# Altium footprint library universky2.PcbLib: 21 footprints (part 2 of 2)
Each footprint in its own frame and in the unit in brackets; x right, y up, seen from the top. Pads: shape width x height; smd on the part's side, far side on the other; paste and mask are expansions set on the pad; w line width, h text height; cw(c..) or ccw(c..) is an arc to the next point about the centre after c.
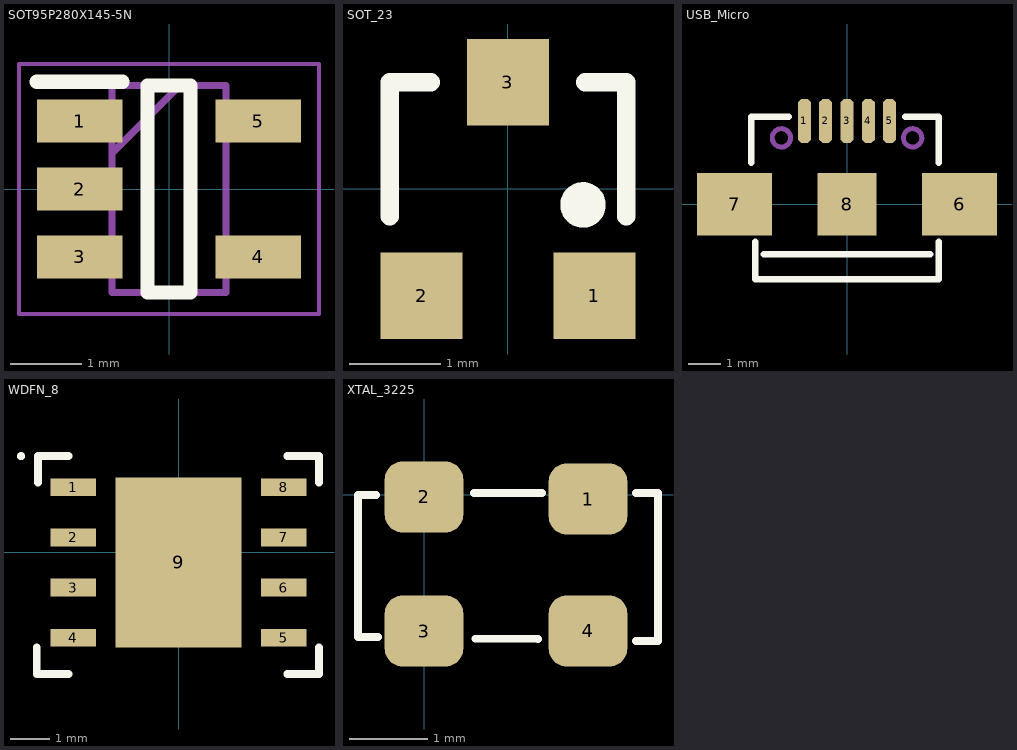
[diagram p1: the footprints below, top view; thin cyan lines are the x and y axes]

## SOT95P280X145-5N [mm]
height 7.01
pads (5):
  rect 1.2x0.6 smd: 1(-1.25,0.95) 2(-1.25,0) 3(-1.25,-0.95) 4(1.25,-0.95) 5(1.25,0.95)
Top Overlay:
  lines w0.2: -1.85,1.5 -0.65,1.5 ; -0.3,-1.45 -0.3,1.45 0.3,1.45 0.3,-1.45 -0.3,-1.45
Mechanical 15:
  lines w0.1: -0.8,0.5 0.15,1.45 ; -0.8,-1.45 -0.8,1.45 0.8,1.45 0.8,-1.45 -0.8,-1.45
Mechanical 16:
  lines w0.05: -2.1,-1.75 -2.1,1.75 2.1,1.75 2.1,-1.75 -2.1,-1.75

## SOT_23 [mm]
height 7.01
pads (3):
  rect 0.9x0.95 smd: 1(0.95,-1.175) 2(-0.95,-1.175) 3(0,1.175)
Top Overlay:
  circle w0.25: c0.825,-0.175 r0.125
  lines w0.2: -1.3,-0.3 -1.3,1.175 -0.85,1.175 ; 0.85,1.175 1.3,1.175 1.3,-0.3
3D body: height 1.12, standoff 0.02, extent -1.5,-1.325 1.5,1.175

## USB_Micro [mm] "USB方孔"
height 8
pads (8):
  oct 0.4x1.35 smd: 1(-1.3,2.54) 2(-0.65,2.54) 3(0,2.54) 4(0.65,2.54) 5(1.3,2.54)
  rect 2.286x1.9 smd: 6(3.429,0) 7(-3.429,0)
  rect 1.8x1.9 smd: 8(0,0)
Top Overlay:
  lines w0.2: -2.921,1.27 -2.921,2.667 -1.778,2.667 ; -2.794,-1.143 -2.794,-2.286 2.794,-2.286 2.794,-1.143 ; -2.54,-1.524 2.54,-1.524 ; 1.778,2.667 2.794,2.667 2.794,1.27
Mechanical 1:
  circle w0.15: c-2,2.023 r0.28
  circle w0.15: c2,2.023 r0.28

## WDFN_8 [mm]
height 7.01
pads (9):
  rect 1.15x0.45 smd: 1(-2.667,1.651) 2(-2.667,0.381) 3(-2.667,-0.889) 4(-2.667,-2.159) 5(2.667,-2.159) 6(2.667,-0.889) 7(2.667,0.381) 8(2.667,1.651)
  rect 3.19x4.3 smd paste-1.595 mask+0: 9(0,-0.254)
Top Overlay:
  circle w0.1: c-3.989,2.438 r0.05
  lines w0.2: -3.589,-2.403 -3.589,-3.073 -2.784,-3.073 ; -3.556,1.768 -3.556,2.438 -2.784,2.438 ; 2.751,-3.073 3.556,-3.073 3.556,-2.403 ; 2.751,2.438 3.556,2.438 3.556,1.768
Top Paste:
  rectangle: -1.5,0.561 -0.1,1.791
  rectangle: -1.5,-0.869 -0.1,0.361
  rectangle: -1.5,-2.299 -0.1,-1.069
  rectangle: 0.1,0.561 1.5,1.791
  rectangle: 0.1,-0.869 1.5,0.361
  rectangle: 0.1,-2.299 1.5,-1.069
3D body: height 0.81, standoff 0.01, extent -2.921,-2.754 3.079,2.246

## XTAL_3225 [mm]
height 7.01
pads (4):
  rrect50% 1x0.9 smd: 1(2.083,-0.051) 2(0,-0.025) 3(0,-1.727) 4(2.083,-1.727)
Top Overlay:
  lines w0.1: -0.61,0 -0.838,0 -0.838,-1.803 -0.584,-1.803 ; 0.635,0.025 1.499,0.025 ; 0.656,-1.826 1.448,-1.829 ; 2.692,-1.854 2.972,-1.854 2.972,0.025 2.692,0.025